# EAGLE library part DS1230L (library ads)
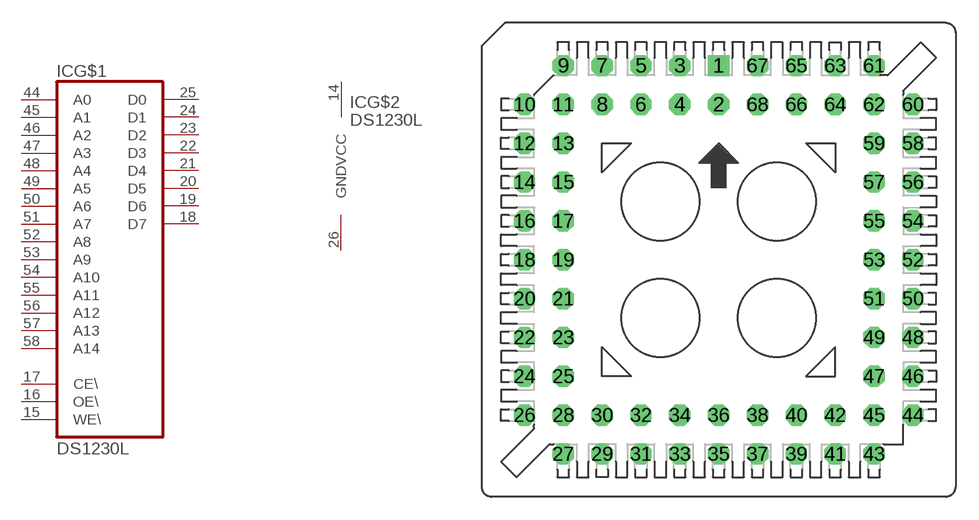
[diagram p9: symbol with the pads of S68; footprint S68]

Designator prefix IC; gates G$1=M256KX8 G$2=POWER2

## DS1230L  [S68]
14  G$2:VCC  pwr
15  G$1:WE\  in
16  G$1:OE\  in
17  G$1:CE\  in
18  G$1:D7  hiz
19  G$1:D6  hiz
20  G$1:D5  hiz
21  G$1:D4  hiz
22  G$1:D3  hiz
23  G$1:D2  hiz
24  G$1:D1  hiz
25  G$1:D0  hiz
26  G$2:GND  pwr
44  G$1:A0  in
45  G$1:A1  in
46  G$1:A2  in
47  G$1:A3  in
48  G$1:A4  in
49  G$1:A5  in
50  G$1:A6  in
51  G$1:A7  in
52  G$1:A8  in
53  G$1:A9  in
54  G$1:A10  in
55  G$1:A11  in
56  G$1:A12  in
57  G$1:A13  in
58  G$1:A14  in

## Footprint S68 (pad centres in mm)
drill 0.813 pad 1.397 square: 1 0,12.7
drill 0.813 pad 1.397 octagon: 2 0,10.16; 3 -2.54,12.7; 4 -2.54,10.16; 5 -5.08,12.7; 6 -5.08,10.16; 7 -7.62,12.7; 8 -7.62,10.16; 9 -10.16,12.7; 10 -12.7,10.16; 11 -10.16,10.16; 12 -12.7,7.62; 13 -10.16,7.62; 14 -12.7,5.08; 15 -10.16,5.08; 16 -12.7,2.54; 17 -10.16,2.54; 18 -12.7,0; 19 -10.16,0; 20 -12.7,-2.54; 21 -10.16,-2.54; 22 -12.7,-5.08; 23 -10.16,-5.08; 24 -12.7,-7.62; 25 -10.16,-7.62; 26 -12.7,-10.16; 27 -10.16,-12.7; 28 -10.16,-10.16; 29 -7.62,-12.7; 30 -7.62,-10.16; 31 -5.08,-12.7; 32 -5.08,-10.16; 33 -2.54,-12.7; 34 -2.54,-10.16; 35 0,-12.7; 36 0,-10.16; 37 2.54,-12.7; 38 2.54,-10.16; 39 5.08,-12.7; 40 5.08,-10.16; 41 7.62,-12.7; 42 7.62,-10.16; 43 10.16,-12.7; 44 12.7,-10.16; 45 10.16,-10.16; 46 12.7,-7.62; 47 10.16,-7.62; 48 12.7,-5.08; 49 10.16,-5.08; 50 12.7,-2.54; 51 10.16,-2.54; 52 12.7,0; 53 10.16,0; 54 12.7,2.54; 55 10.16,2.54; 56 12.7,5.08; 57 10.16,5.08; 58 12.7,7.62; 59 10.16,7.62; 60 12.7,10.16; 61 10.16,12.7; 62 10.16,10.16; 63 7.62,12.7; 64 7.62,10.16; 65 5.08,12.7; 66 5.08,10.16; 67 2.54,12.7; 68 2.54,10.16